# Altium schematic symbol library ISP1507.SchLib: 1 symbol
Pins are listed as number, name and electrical type; pins without a type are passive.

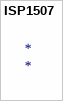
[diagram p0: symbol ISP1507]

## ISP1507
designator *